# Altium schematic symbol library D 电容.SCHLIB: 4 symbols
Pins are listed as number, name and electrical type; pins without a type are passive.

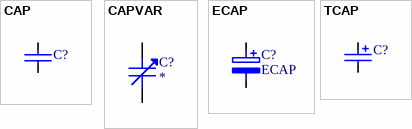
[diagram p0: symbols CAP to TCAP]

## CAP
designator C?
电容
pins: 1, 2

## CAPVAR
designator C?
可变电容
pins: 1, 2

## ECAP
designator C?
电解电容
pins: 1, 2

## TCAP
designator C?
钽电容
pins: 1, 2